# Altium footprint library zs_sener_pcb.PcbLib: 20 footprints (part 2 of 2)
Each footprint in its own frame and in the unit in brackets; x right, y up, seen from the top. Pads: shape width x height; smd on the part's side, far side on the other; paste and mask are expansions set on the pad; w line width, h text height; cw(c..) or ccw(c..) is an arc to the next point about the centre after c.
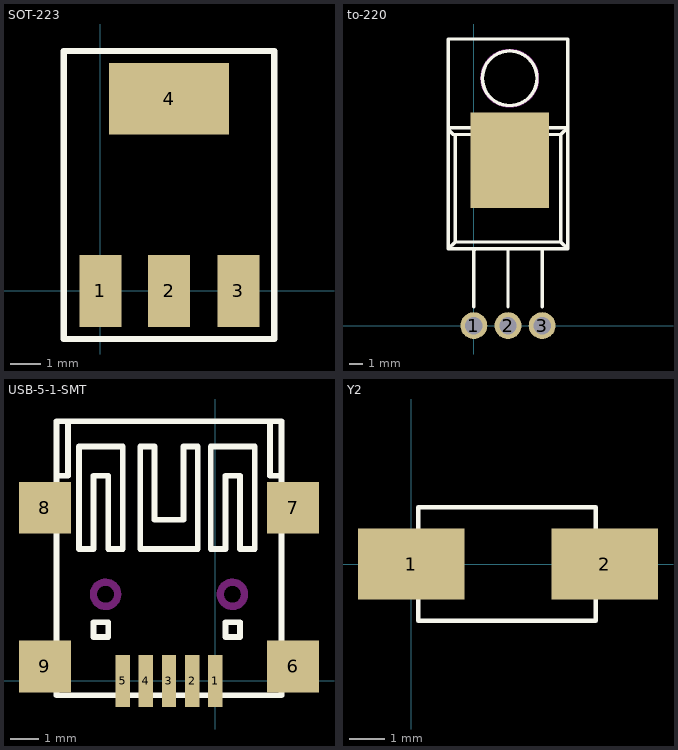
[diagram p1: the footprints below, top view; thin cyan lines are the x and y axes]

## SOT-223 [mil]
pads (4):
  rect 55x94 smd: 1(0,0) 2(90,0) 3(181,0)
  rect 157x94 smd: 4(90,252)
Top Overlay:
  lines w8: -48,-63 228,-63 228,315 -48,315 -48,-63

## to-220 [mm]
pads (4):
  round 2 hole 1.3: 1(0,0) 2(2.54,0) 3(5.08,0)
  rect 5.842x7.112 smd: ""(2.667,12.319)
Top Overlay:
  circle w0.254: c2.667,18.415 r2.032
  lines w0.254: -1.905,14.605 -1.524,14.224 -1.397,14.224 ; -1.905,14.732 6.985,14.732 6.477,14.224 ; 0,1.397 0,2.54 0,5.588 0.127,5.715 ; 2.54,1.397 2.54,2.54 2.54,5.715 ; 5.08,1.397 5.08,2.54 5.08,5.715 ; -1.905,5.715 -1.397,6.223 ; -1.905,5.715 5.08,5.715 ; -1.905,5.715 -1.905,21.336 6.985,21.336 6.985,5.715 ; -1.397,6.223 6.477,6.223 ; -1.397,6.223 -1.397,14.224 ; -1.397,14.224 6.477,14.224 ; 5.08,5.715 6.985,5.715 ; 6.477,6.223 6.985,5.715 ; 6.477,6.223 6.477,14.224
Keep-Out Layer:
  circle w0.254: c2.667,18.415 r2.067

## USB-5-1-SMT [mm]
pads (9):
  rect 0.5x1.8 smd: 1(0,0) 2(-0.8,0) 3(-1.6,0) 4(-2.4,0) 5(-3.2,0)
  rect 1.8x1.8 smd: 6(2.7,0.5) 7(2.7,6) 8(-5.9,6) 9(-5.9,0.5)
Top Overlay:
  lines w0.2: -5.5,7.112 -5.1,7.112 -5.1,9 ; 1.9,9 1.9,7.112 2.3,7.112 ; -5.5,-0.5 2.3,-0.5 2.3,9 -5.5,9 -5.5,-0.5 ; -4.724,4.572 -4.216,4.572 -4.216,7.112 -3.708,7.112 -3.708,4.572 -3.2,4.572 -3.2,8.128 -4.724,8.128 -4.724,4.572 ; -4.216,1.524 -4.216,2.032 -3.708,2.032 -3.708,1.524 -4.216,1.524 ; -2.6,4.572 -2.6,8.128 -2.1,8.128 -2.1,5.588 -1.1,5.588 -1.1,8.128 -0.6,8.128 -0.6,4.572 -2.6,4.572 ; -0.152,4.572 0.356,4.572 0.356,7.112 0.864,7.112 0.864,4.572 1.372,4.572 1.372,8.128 -0.152,8.128 -0.152,4.572 ; 0.356,1.524 0.356,2.032 0.864,2.032 0.864,1.524 0.356,1.524
Bottom Overlay:
  lines w0.2: -5.5,7.112 -5.1,7.112 -5.1,9 ; 1.9,9 1.9,7.112 2.3,7.112 ; -5.5,-0.5 2.3,-0.5 2.3,9 -5.5,9 -5.5,-0.5
Keep-Out Layer:
  circle w0.254: c-3.8,3 r0.42
  circle w0.254: c0.6,3 r0.42

## Y2 [mm]
pads (2):
  rect 3x2 smd: 1(0,0) 2(5.45,0)
Top Overlay:
  lines w0.127: 0.2,-1.6 5.2,-1.6 5.2,1.6 0.2,1.6 0.2,-0.35 0.2,-1.6